# Altium footprint library 二极管-整流桥.PcbLib: 49 footprints (part 2 of 4)
Each footprint in its own frame and in the unit in brackets; x right, y up, seen from the top. Pads: shape width x height; smd on the part's side, far side on the other; paste and mask are expansions set on the pad; w line width, h text height; cw(c..) or ccw(c..) is an arc to the next point about the centre after c.
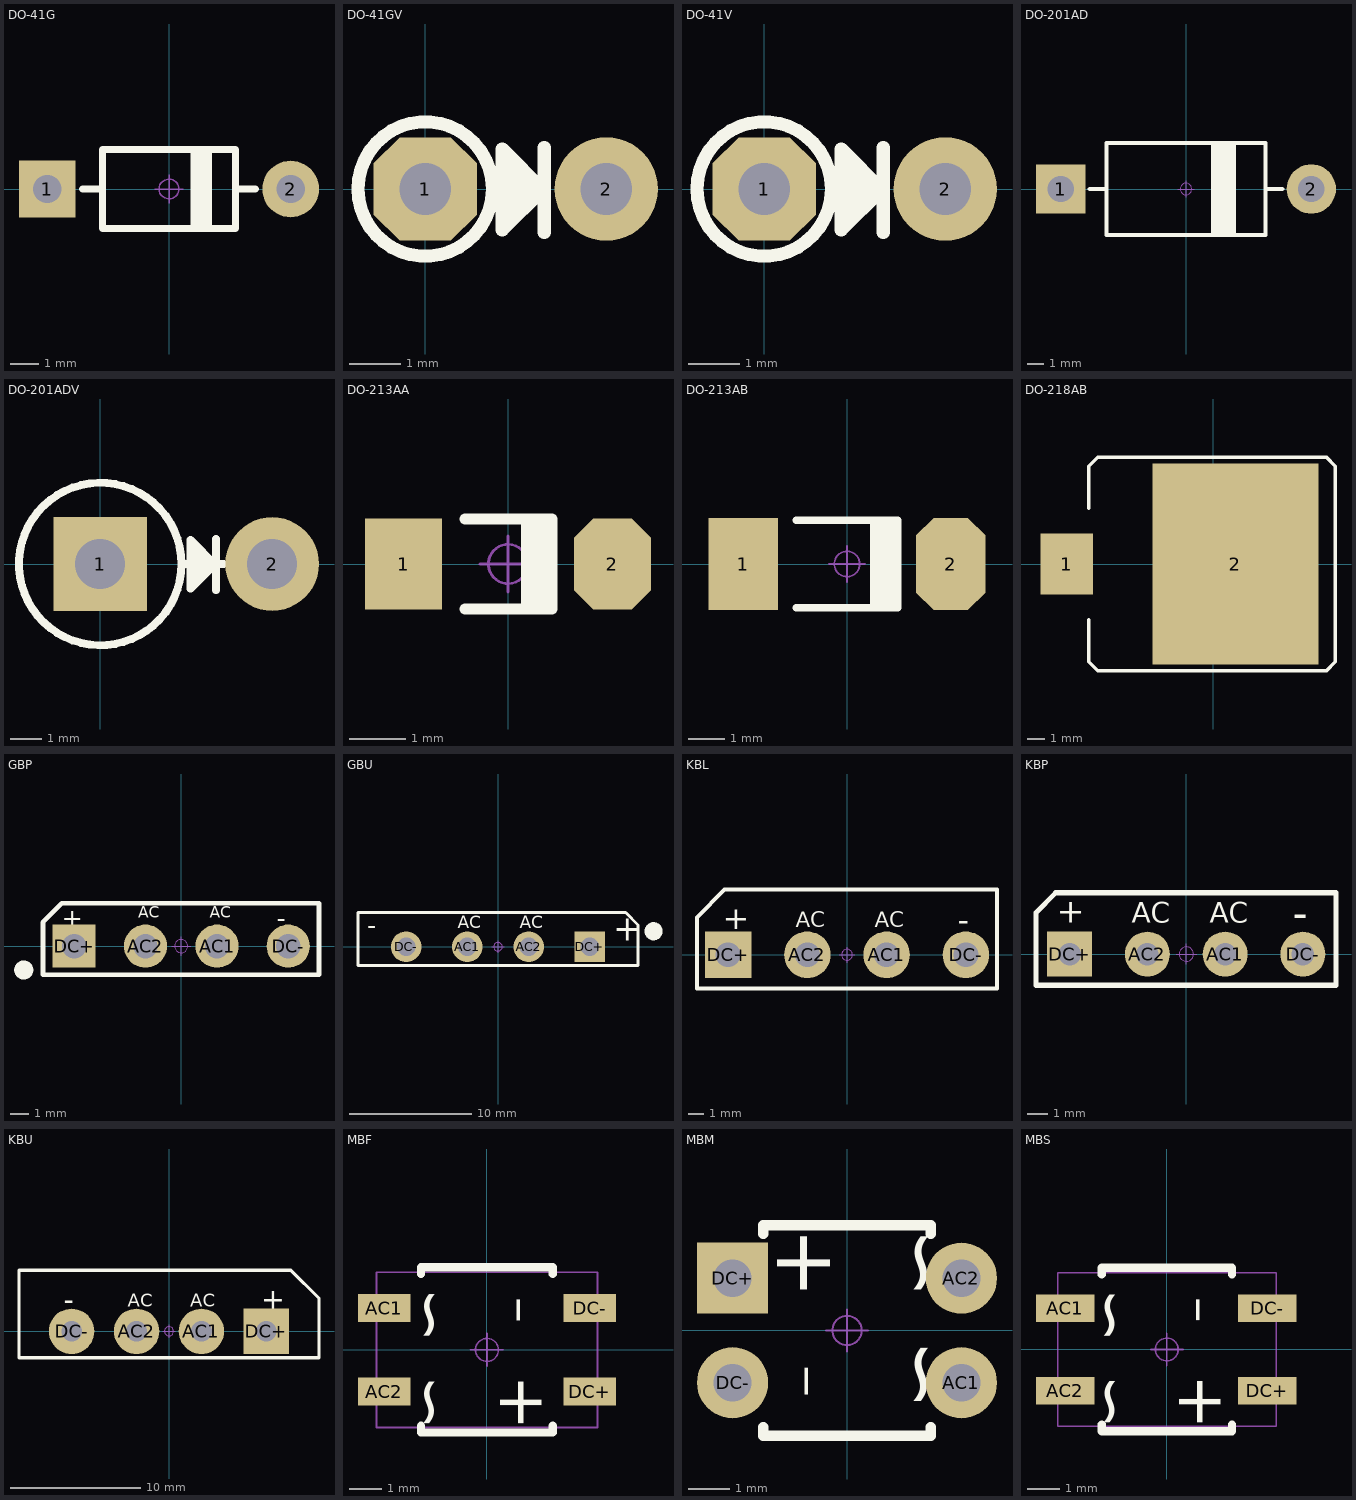
[diagram p1: the footprints below, top view; thin cyan lines are the x and y axes]

## DO-41G [mm] "2.5*8.6mm(直径，脚距）"
height 2.4
pads (2):
  rect 2x2 hole 1: 1(-4.3,0)
  round 2 hole 1: 2(4.3,0)
Top Overlay:
  rectangle: 0.762,-1.397 1.524,1.397
  lines w0.254: -3.048,0 -2.346,0 ; 2.346,0 3.048,0 ; -2.35,-1.397 -2.35,1.397 2.35,1.397 2.35,-1.397 -2.35,-1.397
Mechanical 15:
  circle w0.05: c0,0 r0.35
  lines w0.05: -0.5,0 0.5,0 ; 0,-0.5 0,0.5
3D body "DO-41G.STEP": height 2.55, standoff -3.45, extent -4.7,-1.251 4.7,1.251

## DO-41GV [mm] "2.5*3.5mm(直径，脚距）"
height 2.4
pads (2):
  oct 2x2 hole 1: 1(0,0)
  round 2 hole 1: 2(3.5,0)
Top Overlay:
  circle w0.254: c0,0 r1.3
  lines w0.254: 1.651,0.559 1.676,-0.432 2.159,0 1.905,0.254 1.905,0 1.905,-0.254 ; 2.261,-0.02 1.488,-0.792 1.488,0.775 2.301,-0.038 ; 2.301,-0.841 2.301,0.805
3D body "DO-41G-V.STEP": height 6.4, standoff -3.5, extent -1.251,-1.251 3.9,1.251

## DO-41V [mm] "2.6*3.5mm(直径，脚距）"
height 2.4
pads (2):
  oct 2x2 hole 1: 1(0,0)
  round 2 hole 1: 2(3.5,0)
Top Overlay:
  circle w0.254: c0,0 r1.3
  lines w0.254: 1.651,0.559 1.676,-0.432 2.159,0 1.905,0.254 1.905,0 1.905,-0.254 ; 2.261,-0.02 1.488,-0.792 1.488,0.775 2.301,-0.038 ; 2.301,-0.841 2.301,0.805
3D body "DO-41-V.STEP": height 6.9, standoff -3.5, extent -1.301,-1.301 3.9,1.301

## DO-201AD [mm] "5.2*15.2mm(直径，脚距）"
pads (2):
  rect 3x3 hole 1.6: 1(-7.6,0)
  round 3 hole 1.6: 2(7.6,0)
Top Overlay:
  rectangle: 1.524,-2.794 3.048,2.794
  lines w0.254: -5.842,0 -4.826,0 ; 4.826,0 5.842,0 ; -4.826,-2.794 -4.826,2.794 4.826,2.794 4.826,-2.794 -4.826,-2.794
Mechanical 15:
  circle w0.05: c0,0 r0.35
  lines w0.05: -0.5,0 0.5,0 ; 0,-0.5 0,0.5
3D body "DO-201AD.STEP": height 5.25, standoff -3.46, extent -8.25,-2.601 8.25,2.601

## DO-201ADV [mm] "5.2*5.5mm(直径，脚距）"
pads (2):
  rect 3x3 hole 1.6: 1(0,0)
  round 3 hole 1.6: 2(5.5,0)
Top Overlay:
  circle w0.254: c0,0 r2.6
  lines w0.254: 2.616,0 3.698,0 ; 3.048,0.559 3.073,-0.432 3.556,0 ; 3.302,-0.254 3.302,0 3.302,0.254 3.556,0 ; 3.658,-0.02 2.885,-0.792 2.885,0.775 3.698,-0.038 ; 3.698,-0.841 3.698,0.805 ; 3.937,0 3.556,0
3D body "DO-201AD-V.STEP": height 12, standoff -3.46, extent -2.601,-2.601 6.15,2.601

## DO-213AA [mm] "1.5*3.5mm(直径，脚距）"
pads (2):
  rect 1.37x1.62 smd: 1(-1.855,0)
  oct 1.37x1.62 smd: 2(1.855,0)
Top Overlay:
  rectangle: 0.227,-0.8 0.777,0.8
  lines w0.2: -0.762,-0.8 0.777,-0.8 0.777,0.8 -0.762,0.8
Mechanical 15:
  circle w0.05: c0,0 r0.35
  lines w0.05: -0.5,0 0.5,0 ; 0,-0.5 0,0.5
3D body "DO-213AA.STEP": height 1.53, standoff 0.03, extent -1.75,-0.751 1.75,0.751

## DO-213AB [mm] "2.5*5.6mm(直径，脚距）"
height 2.54
pads (2):
  rect 1.9x2.54 smd: 1(-2.85,0)
  oct 1.9x2.54 smd: 2(2.85,0)
Top Overlay:
  rectangle: 0.85,-1.2 1.4,1.2
  rectangle: 0.635,-1.2 0.85,1.2
  lines w0.2: -1.4,-1.2 1.4,-1.2 1.4,1.2 -1.4,1.2
Mechanical 15:
  circle w0.05: c0,0 r0.35
  lines w0.05: -0.5,0 0.5,0 ; 0,-0.5 0,0.5
3D body "DO-213AB.STEP": height 2.55, standoff 0.05, extent -2.53,-1.251 2.53,1.251

## DO-218AB [mm] "长：13.7mm，宽：10.5mm，厚：5mm"
height 2.54
pads (2):
  rect 3x3.5 smd: 1(-8.382,0)
  rect 9.5x11.5 smd: 2(1.27,0)
Top Overlay:
  lines w0.2: -7.112,-3.175 -7.112,-5.588 -6.604,-6.096 6.477,-6.096 6.985,-5.588 6.985,5.588 6.477,6.096 -6.604,6.096 -7.112,5.588 -7.112,3.175
Mechanical 15:
  circle w0.05: c0,0 r0.35
  lines w0.05: -0.5,0 0.5,0 ; 0,-0.5 0,0.5
3D body "DO-218AB.STEP": height 5.02, standoff 0.02, extent -9.35,-5.25 6.85,5.25

## GBP [mm] "14.2*2.9*10.5mm(长宽高)"
pads (4):
  round 2.3 hole 1.3: AC1(1.91,0) AC2(-1.9,0) DC-(5.7,0)
  rect 2.3x2.3 hole 1.3: DC+(-5.7,0)
Top Overlay:
  circle w0.508: c-8.382,-1.27 r0.254
  lines w0.254: -7.36,-1.524 7.34,-1.524 7.34,2.286 -6.35,2.286 -7.36,1.276 -7.36,-1.524
  text "AC" at -2.286,1.524 h0.6
  text "-" at 5.08,1.016 h1
  text "+" at -6.35,1.016 h1
  text "AC" at 1.524,1.524 h0.6
Mechanical 15:
  circle w0.05: c0,0 r0.35
  lines w0.05: -0.5,0 0.5,0 ; 0,-0.5 0,0.5
3D body "GBP.STEP": height 12.8, standoff -3.6, extent -7.1,-1 7.1,1.9

## GBU [mm] "整流桥，脚距：5mm/200mil"
pads (4):
  round 2.5 hole 1.5: AC1(-2.5,0) AC2(2.5,0) DC-(-7.5,0)
  rect 2.5x2.5 hole 1.5: DC+(7.5,0)
Top Overlay:
  circle w0.762: c12.7,1.27 r0.359
  lines w0.254: -11.43,-1.524 -11.43,2.794 -8.422,2.794 10.414,2.794 11.43,1.778 11.43,-1.524 -11.43,-1.524
  text "-" at -10.668,1.016 h1.52
  text "+" at 9.398,0.508 h2.03
  text "AC" at -3.302,1.524 h1.02
  text "AC" at 1.778,1.524 h1.02
Mechanical 15:
  circle w0.05: c0,0 r0.35
  lines w0.05: -0.5,0 0.5,0 ; 0,-0.5 0,0.5
3D body "GBU.STEP": height 20.8, standoff -4, extent -11,-1.15 11,2.35

## KBL [mm] "19*6.25*15.7mm(长宽高)"
pads (4):
  round 3 hole 1.6: AC1(2.55,0) AC2(-2.55,0) DC-(7.65,0)
  rect 3x3 hole 1.6: DC+(-7.65,0)
Top Overlay:
  lines w0.254: -9.652,-2.159 9.652,-2.159 9.652,4.191 -7.874,4.191 -9.652,2.413 -9.652,-2.159
  text "AC" at 1.778,1.778 h1
  text "AC" at -3.302,1.778 h1
  text "-" at 7.112,1.524 h1.5
  text "+" at -8.001,1.651 h1.5
Mechanical 15:
  circle w0.05: c0,0 r0.35
  lines w0.05: -0.5,0 0.5,0 ; 0,-0.5 0,0.5
3D body "KBL.STEP": height 14.21, standoff -3.49, extent -9.5,-2.1 9.5,4.15

## KBP [mm] "14.7*4.8*12.2mm(长宽高)"
pads (4):
  round 2.2 hole 1.1: AC1(1.9,0) AC2(-1.91,0) DC-(5.71,0)
  rect 2.2x2.2 hole 1.1: DC+(-5.72,0)
Top Overlay:
  lines w0.254: -7.37,-1.524 -7.37,2.028 -6.398,3 7.33,3 7.33,-1.524 -7.37,-1.524
  text "+" at -6.35,1.524 h1.2
  text "-" at 5.207,1.27 h1.5
  text "AC" at -2.672,1.524 h1
  text "AC" at 1.138,1.524 h1
Mechanical 15:
  circle w0.05: c0,0 r0.35
  lines w0.05: -0.5,0 0.5,0 ; 0,-0.5 0,0.5
3D body "KBP.STEP": height 11.7, standoff -3.1, extent -7.35,-1.25 7.35,2.95

## KBU [mm] "23*6.6*19.1mm(长宽高)"
pads (4):
  round 3.5 hole 1.6: AC1(2.5,0) AC2(-2.5,0) DC-(-7.5,0)
  rect 3.5x3.5 hole 1.6: DC+(7.5,0)
Top Overlay:
  lines w0.254: -11.557,-2.032 11.557,-2.032 11.557,2.54 9.398,4.699 -11.557,4.699 -11.557,-2.032
  text "AC" at 1.651,1.905 h1
  text "AC" at -3.175,1.905 h1
  text "-" at -8.128,1.651 h1.6
  text "+" at 7.112,1.651 h1.6
Mechanical 15:
  circle w0.05: c0,0 r0.35
  lines w0.05: -0.5,0 0.5,0 ; 0,-0.5 0,0.5
3D body "KBU.STEP": height 19, standoff -3.49, extent -11.5,-2 11.5,4.6

## MBF [mm] "4.7*7*1.5mm(长宽高)"
height 12.3
pads (4):
  rect 1.6x0.85 smd: AC1(-3.127,1.27) AC2(-3.127,-1.27) DC+(3.127,-1.27) DC-(3.127,1.27)
Top Overlay:
  lines w0.254: -2.007,-2.311 -2.007,-2.515 2.007,-2.515 2.007,-2.311 ; -2.007,2.311 -2.007,2.515 2.007,2.515 2.007,2.311
  text "+" at 2.159,-0.762 h2.54
  text "-" at 2.159,1.651 h3.05
  text "~" at -0.635,-0.762 h2.54
  text "~" at -0.635,1.905 h2.54
Mechanical 13:
  lines w0.05: -3.363,-2.363 -3.363,2.362 3.363,2.362 3.363,-2.363 -3.363,-2.363
Mechanical 15:
  circle w0.05: c0,0 r0.35
  lines w0.05: -0.5,0 0.5,0 ; 0,-0.5 0,0.5
3D body "MBF.STEP": height 1.6, standoff -0.03, extent -3.5,-2.35 3.5,2.35

## MBM [mm] "4.8*5.2*2.5mm(长宽高)"
pads (4):
  round 1.7 hole 0.9: AC1(2.737,-1.25) AC2(2.737,1.25) DC-(-2.737,-1.25)
  rect 1.7x1.7 hole 0.9: DC+(-2.737,1.25)
Top Overlay:
  lines w0.254: -2.007,-2.311 -2.007,-2.515 2.007,-2.515 2.007,-2.311 ; -2.007,2.311 -2.007,2.515 2.007,2.515 2.007,2.311
  text "+" at -2.159,0.762 h2.54
  text "-" at -2.159,-1.651 h3.05
  text "~" at 0.635,0.762 h2.54
  text "~" at 0.635,-1.905 h2.54
Mechanical 15:
  circle w0.05: c0,0 r0.35
  lines w0.05: -0.5,0 0.5,0 ; 0,-0.5 0,0.5
3D body "MBM.STEP": height 2.6, standoff -3.11, extent -3.154,-2.4 3.094,2.4

## MBS [mm] "4.1*6.8*2.5mm(长宽高)"
height 12.3
pads (4):
  rect 1.8x0.85 smd: AC1(-3.127,1.27) AC2(-3.127,-1.27) DC+(3.096,-1.27) DC-(3.096,1.27)
Top Overlay:
  lines w0.254: -2.007,-2.311 -2.007,-2.515 2.007,-2.515 2.007,-2.311 ; -2.007,2.311 -2.007,2.515 2.007,2.515 2.007,2.311
  text "+" at 2.159,-0.762 h2.54
  text "-" at 2.159,1.651 h3.05
  text "~" at -0.635,-0.762 h2.54
  text "~" at -0.635,1.905 h2.54
Mechanical 13:
  lines w0.05: -3.363,-2.363 3.363,-2.363 3.363,2.362 -3.363,2.362 -3.363,-2.363
Mechanical 15:
  circle w0.05: c0,0 r0.35
  lines w0.05: -0.5,0 0.5,0 ; 0,-0.5 0,0.5
3D body "MBS.STEP": height 2.6, standoff -0.03, extent -3.4,-2.4 3.4,2.4